# EAGLE library part 615018149421 (library 615008185221_Eagle_WR-MJ_rev20b)
WR-MJ Modular Jack Horizontal Plastic 6P6C Assembly Tab Up KIND PROPERTIES Quality Class:500 Mating cycles General Information Operating Temperature:-40 up to +85 °C Compliance: RoHS Electrical Properties IR 1:1.5A Working Voltage:120V (AC) Withstanding Voltage:1000V (AC) Contact Resistance:20mΩ RISO:500 MΩ Material Properties Insulator MateriaL:PBT Insulator Flammability Rating:UL94 V-0 Color:Black Contact Material Copper Alloy Contact Plating:Gold Contact Type:Stamped Shielding Material:Brass Shielding Plating:Nickel Packaging Properties Packaging:Tray <https://www.we-online.com/catalog/media/o33122v209%20Family_Con_WR-MJ_Horizontal_Plastic_6150xx149421_pf2.jpg> Details see: https://www.we-online.com/catalog/en/MJ_HORIZONTAL_PLASTIC_ASSEMBLY_6P6C_TAB_UP/ Updated by Yingchun,Shan 2020-01-06 2020 (C) Würth Elektronik
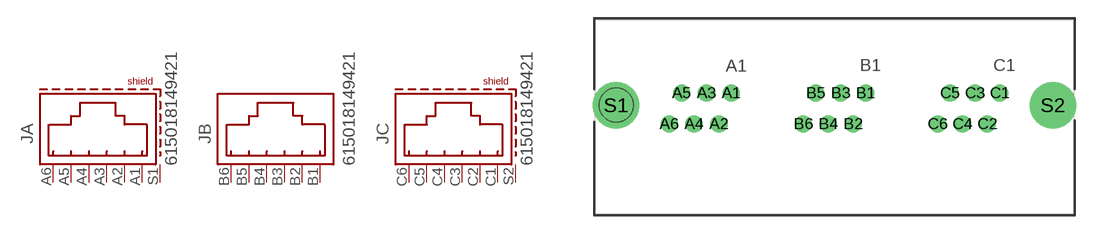
[diagram p29: symbol with the pads of 615018149421; footprint 615018149421]

Designator prefix J; gates A=6P6C_S C=6P6C_S B=6P6C

## 615018149421 (DATASHEET-URL: https://www.we-online.com/catalog/datasheet/615018149421.pdf; MOUNT: THT; PART-NUMBER: 615018149421; TYPE: Horizontal; VALUE: 615018149421; XPXC: 6P6C)  [615018149421]
A1  A:1  pas
A2  A:2  pas
A3  A:3  pas
A4  A:4  pas
A5  A:5  pas
A6  A:6  pas
B1  B:1  pas
B2  B:2  pas
B3  B:3  pas
B4  B:4  pas
B5  B:5  pas
B6  B:6  pas
C1  C:1  pas
C2  C:2  pas
C3  C:3  pas
C4  C:4  pas
C5  C:5  pas
C6  C:6  pas
S1  A:SHIELD  pas
S2  C:SHIELD  pas

## Footprint 615018149421 (pad centres in mm)
WR-MJ Modular Jack Horizontal Plastic 6P6C Assembly Tab Up
drill 0.9: A1 -8.45,1.97; A2 -9.47,-0.57; A3 -10.49,1.97; A4 -11.51,-0.57; A5 -12.53,1.97; A6 -13.55,-0.57; B1 2.55,1.97; B2 1.53,-0.57; B3 0.51,1.97; B4 -0.51,-0.57; B5 -1.53,1.97; B6 -2.55,-0.57; C1 13.55,1.97; C2 12.53,-0.57; C3 11.51,1.97; C4 10.49,-0.57; C5 9.47,1.97; C6 8.45,-0.57
drill 2.8: S1 -17.9,0.97; S2 17.9,0.97
hole 2.8 at -17.9,0.97